# Altium footprint library Pot.PcbLib: 13 footprints
Each footprint in its own frame and in the unit in brackets; x right, y up, seen from the top. Pads: shape width x height; smd on the part's side, far side on the other; paste and mask are expansions set on the pad; w line width, h text height; cw(c..) or ccw(c..) is an arc to the next point about the centre after c.
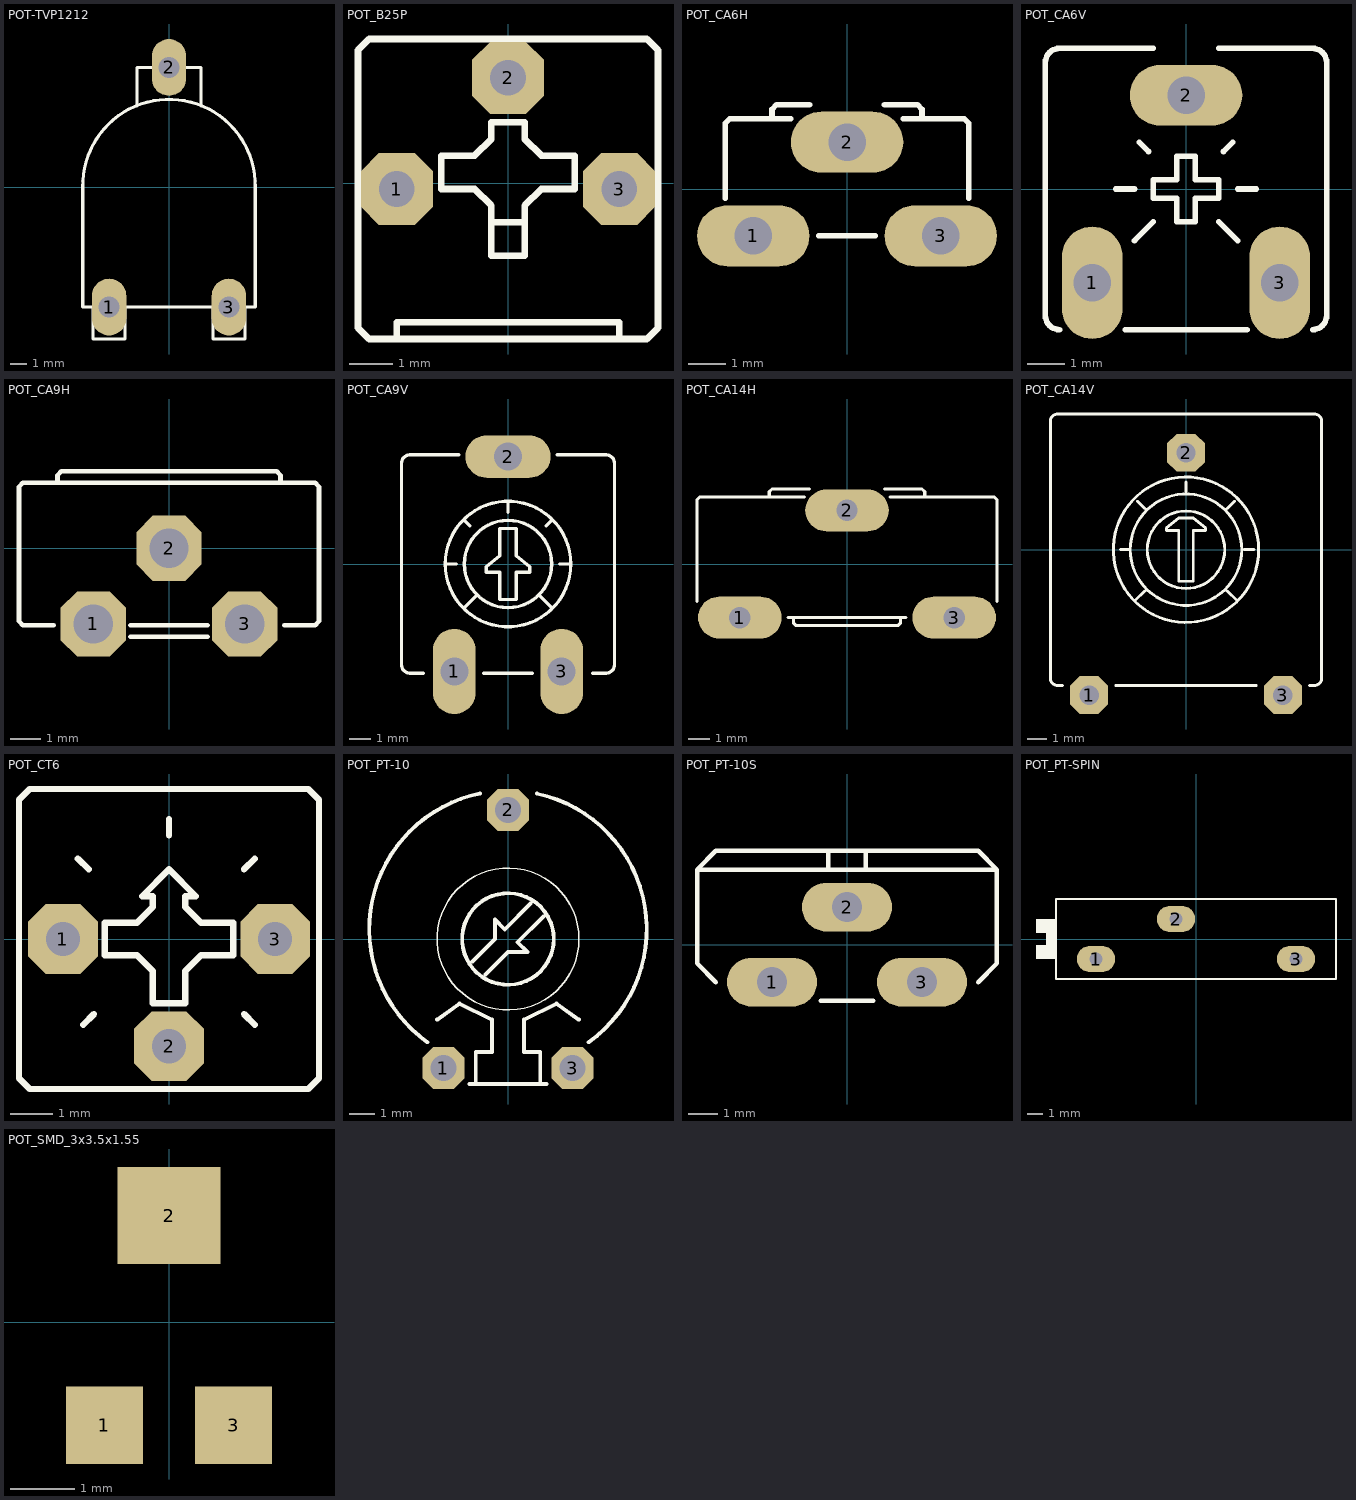
[diagram p0: the footprints below, top view; thin cyan lines are the x and y axes]

## POT-TVP1212 [mil]
pads (3):
  oval 85x140 hole 52: 1(-147.64,-295.28) 2(0,295.28) 3(147.64,-295.28)
Top Overlay:
  lines w7.87: -187.01,-295.28 -187.01,-374.02 -108.27,-374.02 -108.27,-295.28 ; -78.74,200.79 -78.74,295.28 78.74,295.28 78.74,200.79 ; 108.27,-295.28 108.27,-374.02 187.01,-374.02 187.01,-295.28 ; -212.6,-295.28 -212.6,0 cw(c0,3.9) 212.6,0 212.6,-295.28 -212.6,-295.28

## POT_B25P [mil]
pads (3):
  oct 65x65 hole 32: 1(-100,-5) 2(0,95) 3(100,-5)
Top Overlay:
  lines w6: -100,-140 -25,-140 25,-140 100,-140 ; -100,-140 -100,-125 -40,-125 40,-125 100,-125 100,-140 ; -100,-140 -125,-140 -135,-130 -135,-65 -135,-15 -135,120 -125,130 125,130 135,120 135,-15 135,-65 135,-130 125,-140 100,-140 ; -15,-35 -15,-65 15,-65 15,-35 ; -15,-35 15,-35 ; -15,-35 -15,-20 -30,-5 -60,-5 -60,25 -30,25 -15,40 -15,55 15,55 15,40 30,25 60,25 60,-5 30,-5 15,-20 15,-35

## POT_CA6H [mil]
pads (3):
  oval 120x65 hole 40: 1(-100,-50) 2(0,50) 3(100,-50)
Top Overlay:
  lines w6: -130,-10 -130,70 -125,75 -80,75 ; -60,75 -80,75 ; -40,90 -75,90 -80,85 -80,75 ; -30,-50 30,-50 ; 40,90 75,90 80,85 80,75 ; 60,75 80,75 ; 130,-10 130,70 125,75 80,75
3D body: height 413.39, standoff -31.87, extent -127.95,-165.98 127.96,55.63

## POT_CA6V [mil]
pads (3):
  oval 65x120 hole 40: 1(-100,-100) 3(100,-100)
  oval 120x65 hole 40: 2(0,100)
Top Overlay:
  lines w6: -135,-150 cw(c-135,-135) -150,-135 -150,135 cw(c-135,135) -135,150 -35,150 ; -75,0 -55,0 ; -65,-150 65,-150 ; -55,-55 -35,-35 ; -50,50 -40,40 ; 35,-35 55,-55 ; 35,150 135,150 cw(c135,135) 150,135 150,-135 cw(c135,-135) 135,-150 ; 40,40 50,50 ; 55,0 75,0 ; -35,-10 -10,-10 -10,-35 10,-35 10,-10 35,-10 35,10 10,10 10,35 -10,35 -10,10 -35,10 -35,-10
3D body: height 291.34, standoff -137.8, extent -127.95,-144.69 127.95,132.87

## POT_CA9H [mm]
pads (3):
  oct 2.159x2.159 hole 1.3: 1(-2.5,-2.5) 2(0,0) 3(2.5,-2.5)
Top Overlay:
  lines w0.152: -3.81,-2.54 -4.826,-2.54 -4.953,-2.413 -4.953,2.032 -4.826,2.159 -3.683,2.159 ; -1.27,-2.921 1.27,-2.921 ; -1.27,-2.54 1.27,-2.54 ; 3.81,-2.54 4.826,-2.54 4.953,-2.413 4.953,2.032 4.826,2.159 3.683,2.159 ; -3.683,2.159 -3.683,2.413 -3.556,2.54 3.556,2.54 3.683,2.413 3.683,2.159 ; -3.683,2.159 3.683,2.159

## POT_CA9V [mm]
pads (3):
  oval 1.981x3.962 hole 1.3: 1(-2.5,-5) 3(2.5,-5)
  oval 3.962x1.981 hole 1.3: 2(0,5)
Top Overlay:
  circle w0.152: c0,0 r2.032
  circle w0.152: c0,0 r2.921
  lines w0.152: -3.937,-5.08 -4.572,-5.08 cw(c-4.572,-4.699) -4.953,-4.699 -4.953,4.699 cw(c-4.572,4.699) -4.572,5.08 -2.286,5.08 ; -2.921,0 -2.413,0 ; -2.032,-2.032 -1.524,-1.524 ; -2.032,2.032 -1.778,1.778 ; -1.143,-5.08 1.143,-5.08 ; 0,2.413 0,2.921 ; 1.524,-1.524 2.032,-2.032 ; 1.778,1.778 2.032,2.032 ; 2.286,5.08 4.572,5.08 cw(c4.572,4.699) 4.953,4.699 4.953,-4.699 cw(c4.572,-4.699) 4.572,-5.08 3.937,-5.08 ; 2.413,0 2.921,0 ; -1.016,-0.381 -0.381,-0.381 -0.381,-1.651 0.381,-1.651 0.381,-0.381 1.016,-0.381 1.016,-0.127 0.381,0.381 0.381,1.651 -0.381,1.651 -0.381,0.381 -1.016,-0.127 -1.016,-0.381

## POT_CA14H [mil]
pads (3):
  oval 156x78 hole 40: 1(-200,-100) 2(0,100) 3(200,-100)
Top Overlay:
  lines w6: -280,-70 -280,120 -275,125 -145,125 ; -110,-100 -100,-100 ; -80,125 -145,125 ; -70,140 -140,140 -145,135 -145,125 ; 70,140 140,140 145,135 145,125 ; 80,125 145,125 ; 110,-100 100,-100 ; 280,-70 280,120 275,125 145,125 ; -100,-100 -100,-110 -95,-115 95,-115 100,-110 100,-100 ; -100,-100 100,-100

## POT_CA14V [mil]
pads (3):
  oct 78x78 hole 40: 1(-200,-300) 2(0,200) 3(200,-300)
Top Overlay:
  circle w6: c0,0 r150
  circle w6: c0,0 r80
  circle w6: c0,0 r115
  lines w6: -255,-280 -265,-280 cw(c-265,-265) -280,-265 -280,-195 -280,265 cw(c-265,265) -265,280 265,280 cw(c265,265) 280,265 280,-195 280,-265 cw(c265,-265) 265,-280 255,-280 ; -145,-280 -120,-280 120,-280 145,-280 ; -135,0 -115,0 ; -105,-105 -85,-85 ; -100,100 -85,85 ; 0,120 0,140 ; 85,-85 105,-105 ; 85,85 100,100 ; 120,0 140,0 ; -40,40 -15,40 -15,-65 15,-65 15,40 40,40 40,45 15,65 -15,65 -40,45 -40,40

## POT_CT6 [mil]
pads (3):
  oct 65x65 hole 32: 1(-99,0) 2(0,-100) 3(99,0)
Top Overlay:
  lines w6: -85,75 -75,65 ; -80,-80 -70,-70 ; 0,97 0,112 ; 70,-70 80,-80 ; 70,65 80,75 ; -140,-130 -130,-140 130,-140 140,-130 140,130 130,140 -130,140 -140,130 -140,-130 ; -60,-15 -60,15 -30,15 -15,30 -15,40 -25,40 0,65 25,40 15,40 15,30 30,15 60,15 60,-15 30,-15 15,-30 15,-60 -15,-60 -15,-30 -30,-15 -60,-15
3D body: height 185.04, standoff -215.35, extent -129.92,-129.92 129.92,147.79

## POT_PT-10 [mil]
pads (3):
  oct 65x65 hole 40: 1(-100,-200) 2(0,200) 3(100,-200)
Top Overlay:
  circle w6: c0,0 r71
  circle w2: c0,0 r110
  lines w6: -125,-160 cw(c0,15) -43.21,225.67 ; -110,-125 -75,-100 -25,-125 -25,-175 -50,-175 -50,-225 ; -60,-225 60,-225 ; -55,-35 -20,0 -20,30 -5,15 35,55 ; -35,-55 0,-20 30,-20 15,-5 55,35 ; 45.06,225.28 cw(c0,15) 125,-160 ; 50,-225 50,-175 25,-175 25,-125 75,-100 110,-125

## POT_PT-10S [mil]
pads (3):
  oval 120x65 hole 40: 1(-100,-50) 2(0,50) 3(100,-50)
Top Overlay:
  lines w6: -175,-50 -200,-25 -200,100 ; -35,-75 35,-75 ; -25,100 -25,125 ; 25,100 25,125 ; 175,-50 200,-25 200,100 ; -200,100 -175,125 175,125 200,100 ; -200,100 200,100

## POT_PT-SPIN [mil]
pads (3):
  oval 96x65 hole 32: 1(-250,-50) 2(-50,50) 3(250,-50)
Top Overlay:
  rectangle: -375,-50 -350,50
  rectangle: -400,15 -375,50
  rectangle: -400,-50 -375,-15
  lines w6: -350,-100 350,-100 350,100 -350,100 -350,-100

## POT_SMD_3x3.5x1.55 [mm]
pads (3):
  rect 1.2x1.2 smd: 1(-1,-1.6) 3(1,-1.6)
  rect 1.6x1.5 smd: 2(0,1.65)
3D body: height 1.01, standoff -0.06, extent -1.9,-2 1.9,2.23